# Altium schematic symbol library Schlib1.SchLib: 7 symbols
Pins are listed as number, name and electrical type; pins without a type are passive.

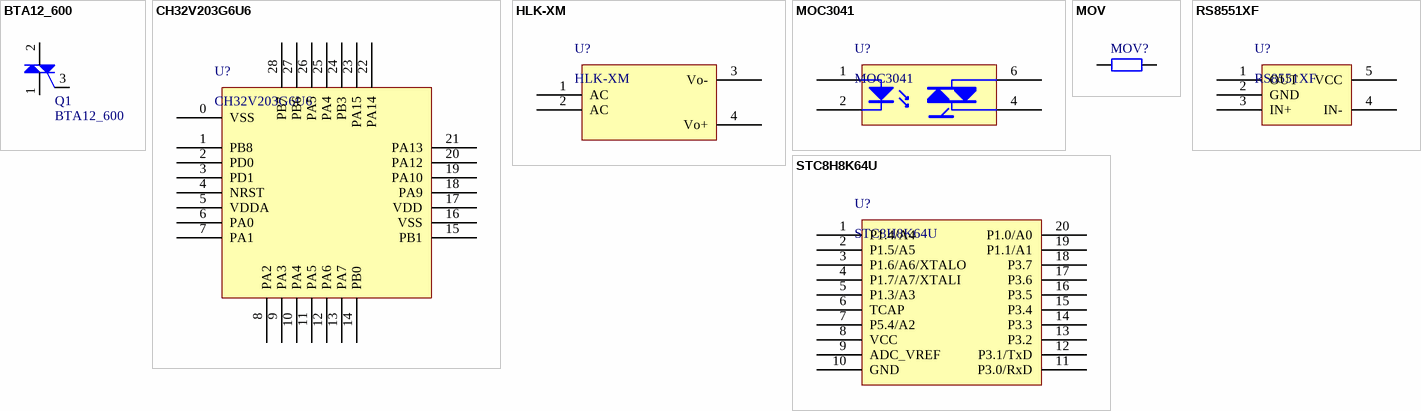
[diagram p0: symbols BTA12_600 to STC8H8K64U]

## BTA12_600
designator Q1
双向可控硅; 版权归属: 源创客; BOM名称: 双向可控硅; 学习资源: www.ooocke.com
footprint TO220A (220，3脚晶体管)
footprint TO220B (220，3脚晶体管)
footprint TO252 (252晶体管)
pins: 1 A2, 2 A1, 3 G

## CH32V203G6U6
designator U?
CH32V 系列产品是基于 32 位 RISC-V 指令集及架构设计的工业级通用增强型 MCU
footprint QFN28_4X4
pins: 0 VSS, 1 PB8, 2 PD0, 3 PD1, 4 NRST, 5 VDDA, 6 PA0, 7 PA1, 8 PA2, 9 PA3, 10 PA4, 11 PA5, 12 PA6, 13 PA7, 14 PB0, 15 PB1, 16 VSS, 17 VDD, 18 PA9, 19 PA10, 20 PA12, 21 PA13, 22 PA14, 23 PA15, 24 PB3, 25 PA4, 26 PA5, 27 PB6, 28 PB7

## HLK-XM
designator U?
超小型系列模块电源
footprint HLK_10M
footprint HLK_2M
footprint HLK_5M
pins: 1 AC, 2 AC, 3 Vo-, 4 Vo+

## MOC3041
designator U?
footprint DIP6-300 (6.8*7.6*3.8(长宽高）)
pins: 1, 2, 4, 6

## MOV
designator MOV?, comment 1K  (value not drawn)
压敏电阻; BOM名称: 贴片电阻; 版权归属: 源创客; 学习资源: www.ooocke.com
footprint RES-10-561(TVR)
pins: 1, 2

## RS8551XF
designator U?
零漂移,1uV Vos,4.5MHz,1通道运放
footprint SOT23-5N (3x1.6x1.1mm(长宽高))
pins: 1 OUT, 2 GND, 3 IN+, 4 IN-, 5 VCC

## STC8H8K64U
designator U?
footprint TSSOP20_N (6.5*6.4*1（长宽高）)
pins: 1 P1.4/A4, 2 P1.5/A5, 3 P1.6/A6/XTALO, 4 P1.7/A7/XTALI, 5 P1.3/A3, 6 TCAP, 7 P5.4/A2, 8 VCC, 9 ADC_VREF, 10 GND, 11 P3.0/RxD, 12 P3.1/TxD, 13 P3.2, 14 P3.3, 15 P3.4, 16 P3.5, 17 P3.6, 18 P3.7, 19 P1.1/A1, 20 P1.0/A0